# Altium footprint library Arduino due pin v3.PcbLib: 1 footprints
Each footprint in its own frame and in the unit in brackets; x right, y up, seen from the top. Pads: shape width x height; smd on the part's side, far side on the other; paste and mask are expansions set on the pad; w line width, h text height; cw(c..) or ccw(c..) is an arc to the next point about the centre after c.
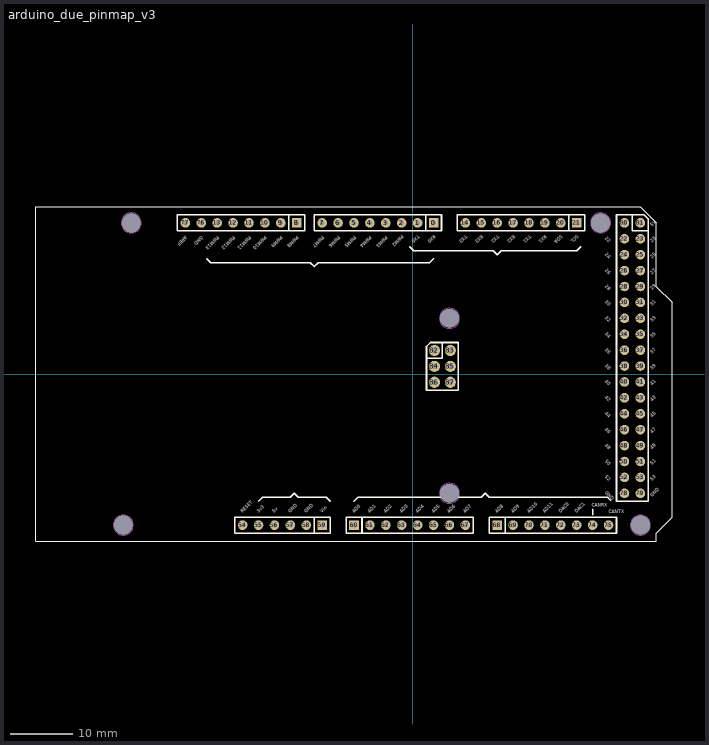
[diagram p0: the footprint, top view; thin cyan lines are the x and y axes]

## arduino_due_pinmap_v3 [mil]
pads (88):
  rect 60x60 hole 30: 0(130,950) 8(-730,950) 21(1030,950) 59(-570,-950) 60(-370,-950) 68(530,-950)
  round 60 hole 30: 1(30,950) 2(-70,950) 3(-170,950) 4(-270,950) 5(-370,950) 6(-470,950) 7(-570,950) 9(-830,950) 10(-930,950) 11(-1030,950) 12(-1130,950) 13(-1230,950) 14(330,950) 15(430,950) 16(530,950) 17(630,950) 18(730,950) 19(830,950) 20(930,950) 22(1330,850) 23(1430,850) 24(1330,750) 25(1430,750) 26(1330,650) 27(1430,650) 28(1330,550) 29(1430,550) 30(1330,450) 31(1430,450) 32(1330,350) 33(1430,350) 34(1330,250) 35(1430,250) 36(1330,150) 37(1430,150) 38(1330,50) 39(1430,50) 40(1330,-50) 41(1430,-50) 42(1330,-150) 43(1430,-150) 44(1330,-250) 45(1430,-250) 46(1330,-350) 47(1430,-350) 48(1330,-450) 49(1430,-450) 50(1330,-550) 51(1430,-550) 52(1330,-650) 53(1430,-650) 54(-1070,-950) 55(-970,-950) 56(-870,-950) 57(-770,-950) 58(-670,-950) 61(-270,-950) 62(-170,-950) 63(-70,-950) 64(30,-950) 65(130,-950) 66(230,-950) 67(330,-950) 69(630,-950) 70(730,-950) 71(830,-950) 72(930,-950) 73(1030,-950) 74(1130,-950) 75(1230,-950) 76(-1330,950) 77(-1430,950) 78(1330,-750) 79(1430,-750) 80(1330,950) 81(1430,950)
  round 70 hole 35.43: 82(135.51,148.03) 83(235.51,148.03) 84(135.51,48.03) 85(235.51,48.03) 86(135.51,-51.97) 87(235.51,-51.97)
via 1180,950 diameter 118.11 hole 118.11
via 230,350 diameter 118.11 hole 118.11
via 230,-750 diameter 118.11 hole 118.11
via 1430,-950 diameter 118.11 hole 118.11
via -1820,-950 diameter 118.11 hole 118.11
via -1770,950 diameter 118.11 hole 118.11
Top Overlay:
  lines w5: -2370,-1050 1530,-1050 1530,-1000 1630,-900 1630,450 1530,550 1530,950 1430,1050 -2370,1050 -2370,-1050
  lines w10: -1295,725 -1270,700 -645,700 -620,675 -595,700 105,700 130,725 ; -970,-800 -945,-775 -770,-775 -745,-750 -720,-775 -545,-775 -520,-800 ; -780,900 -780,1000 ; -370,-800 -345,-775 430,-775 455,-750 480,-775 1222.93,-775 1242.7,-794.77 ; -320,-1000 -320,-900 ; -20,800 5,775 505,775 530,750 555,775 1030,775 1055,800 ; 80,900 80,1000 ; 85.51,98.03 185.51,98.03 185.51,198.03 ; 580,-1000 580,-900 ; 980,900 980,1000 ; 1130,-885 1130,-850 ; 1380,1000 1380,900 1480,900 ; -620,-1000 -520,-1000 -520,-950 -520,-900 -620,-900 ; -620,-1000 -1120,-1000 -1120,-900 -620,-900 ; -620,-1000 -620,-900 ; -1480,900 -1480,1000 -680,1000 -680,900 -1480,900 ; -620,900 -620,1000 180,1000 180,900 -620,900 ; -420,-1000 380,-1000 380,-900 -420,-900 -420,-1000 ; 85.51,-101.97 85.51,173.03 110.51,198.03 285.51,198.03 285.51,-101.97 85.51,-101.97 ; 280,900 280,1000 1080,1000 1080,900 280,900 ; 480,-1000 1280,-1000 1280,-900 480,-900 480,-1000 ; 1280,-800 1480,-800 1480,975 1455,1000 1280,1000 1280,-800
  text "AREF" at -1430,870 h20
  text "GND" at -1330,870 h20
  text "PWM13" at -1230,870 h20
  text "PWM12" at -1130,870 h20
  text "PWM11" at -1030,870 h20
  text "PWM10" at -930,870 h20
  text "PWM9" at -830,870 h20
  text "PWM8" at -730,870 h20
  text "PWM7" at -570,867.93 h20
  text "PWM6" at -470,867.93 h20
  text "PWM5" at -370,867.93 h20
  text "PWM4" at -270,867.93 h20
  text "PWM3" at -170,867.93 h20
  text "PWM2" at -70,875 h20
  text "TX0" at 30,875 h20
  text "TX3" at 330,875 h20
  text "RX3" at 430,875 h20
  text "TX2" at 530,875 h20
  text "RX2" at 630,875 h20
  text "TX1" at 730,875 h20
  text "RX1" at 830,875 h20
  text "SDA" at 930,875 h20
  text "GND" at 1505,-775 h20
  text "53" at 1505,-675 h20
  text "51" at 1505,-575 h20
  text "49" at 1505,-475 h20
  text "47" at 1505,-375 h20
  text "45" at 1505,-275 h20
  text "43" at 1505,-175 h20
  text "41" at 1505,-75 h20
  text "39" at 1505,25 h20
  text "37" at 1505,125 h20
  text "35" at 1505,225 h20
  text "33" at 1505,325 h20
  text "31" at 1505,425 h20
  text "29" at 1505,525 h20
  text "27" at 1505,625 h20
  text "25" at 1505,725 h20
  text "23" at 1505,825 h20
  text "5V" at 1505,925 h20
  text "50" at 1205,-550 h20
  text "GND" at 1205,-750 h20
  text "52" at 1205,-650 h20
  text "48" at 1205,-450 h20
  text "46" at 1205,-350 h20
  text "44" at 1205,-250 h20
  text "42" at 1205,-150 h20
  text "40" at 1205,-50 h20
  text "38" at 1205,50 h20
  text "36" at 1205,150 h20
  text "34" at 1205,250 h20
  text "32" at 1205,350 h20
  text "30" at 1205,450 h20
  text "28" at 1205,550 h20
  text "26" at 1205,650 h20
  text "24" at 1205,750 h20
  text "22" at 1205,850 h20
  text "SCL" at 1030,875 h20
  text "RX0" at 130,875 h20
  text "CANTX" at 1230,-875 h20
  text "CANRX" at 1125,-835 h20
  text "DAC1" at 1030,-875 h20
  text "DAC0" at 930,-875 h20
  text "AD11" at 830,-875 h20
  text "AD10" at 730,-875 h20
  text "AD9" at 630,-875 h20
  text "AD8" at 530,-875 h20
  text "AD7" at 330,-875 h20
  text "AD6" at 230,-875 h20
  text "AD5" at 130,-875 h20
  text "AD4" at 30,-875 h20
  text "AD3" at -70,-875 h20
  text "AD2" at -170,-875 h20
  text "AD1" at -270,-875 h20
  text "AD0" at -370,-875 h20
  text "Vin" at -570,-875 h20
  text "GND" at -670,-875 h20
  text "GND" at -770,-875 h20
  text "5v" at -870,-875 h20
  text "3v3" at -970,-875 h20
  text "RESET" at -1070,-875 h20
Mechanical 1:
  circle w5: c-1770,950 r62.99
  circle w5: c230,-750 r62.99
  circle w5: c-1820,-950 r62.99
  circle w5: c230,350 r62.99
  circle w5: c1180,950 r62.99
  circle w5: c1430,-950 r62.99